# EAGLE library part SOC08X2 (library omcSocket)
SOC8X2 - two columns 8-pin socket/footprint 8 pins 2 columns 4 pins per column Distributor Reichelt: avialable Conrad: - Digi-Key: -
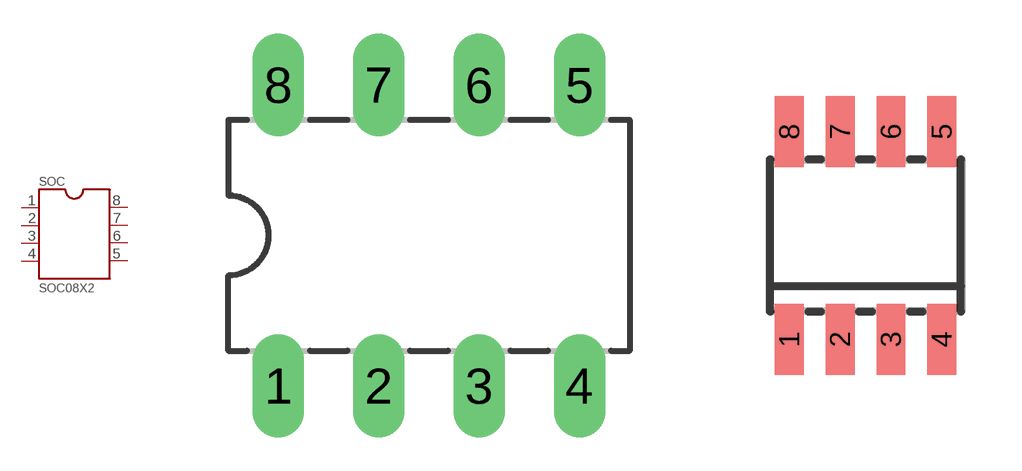
[diagram p0: symbol with the pads of DIL08; footprints DIL08, SOIC08]

Designator prefix SOC

## SOC08X2-DIL  [DIL08]
1  1
2  2
3  3
4  4
5  5
6  6
7  7
8  8

## SOC08X2-SOIC  [SOIC08]
Pads as for DIL08

## Footprint DIL08 (pad centres in mm)
DIL8 Dual-in-line package THT 10.16mm×7.62mm Wikipedia <https://en.wikipedia.org/wiki/Dual_in-line_package>
drill 0.8 long: 1 -3.81,-3.81; 2 -1.27,-3.81; 3 1.27,-3.81; 4 3.81,-3.81; 5 3.81,3.81; 6 1.27,3.81; 7 -1.27,3.81; 8 -3.81,3.81

## Footprint SOIC08 (pad centres in mm)
SOIC08 SMD 5mm×6.2mm Wikipedia <https://en.wikipedia.org/wiki/Small_Outline_Integrated_Circuit>
smd 0.72 x 1.78: 1 -1.905,-2.6; 2 -0.635,-2.6; 3 0.635,-2.6; 4 1.905,-2.6; 5 1.905,2.6; 6 0.635,2.6; 7 -0.635,2.6; 8 -1.905,2.6